# Altium footprint library SON50P300X300X75-11T175X248L.PcbLib: 1 footprints
Each footprint in its own frame and in the unit in brackets; x right, y up, seen from the top. Pads: shape width x height; smd on the part's side, far side on the other; paste and mask are expansions set on the pad; w line width, h text height; cw(c..) or ccw(c..) is an arc to the next point about the centre after c.
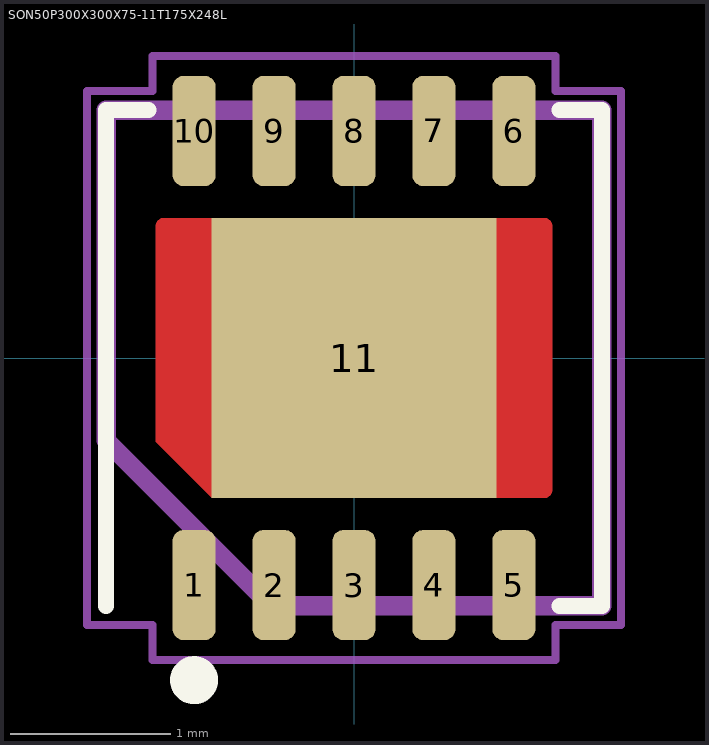
[diagram p0: the footprint, top view; thin cyan lines are the x and y axes]

## SON50P300X300X75-11T175X248L [mm] "Small Outline No-Lead (SON with Tab), 0.50 mm pitch; 10 pin, 3.00 mm L X 3.00 mm W X 0.75 mm H body"
height 0.75
pads (11):
  rrect52% 0.27x0.69 smd: 1(-1,-1.42) 2(-0.5,-1.42) 3(0,-1.42) 4(0.5,-1.42) 5(1,-1.42) 6(1,1.42) 7(0.5,1.42) 8(0,1.42) 9(-0.5,1.42) 10(-1,1.42)
  rect 1.78x1.75 smd paste-1.78 mask+0: 11(0,0)
Top Layer:
  region: 1.24,0 1.24,-0.825 1.239,-0.833 1.238,-0.841 1.235,-0.848 1.231,-0.854 1.225,-0.86 1.219,-0.865 1.213,-0.87 1.205,-0.873 1.198,-0.874 -0.89,-0.875 -1.24,-0.525 -1.24,0.825 -1.239,0.833 -1.238,0.841 -1.235,0.848 -1.231,0.854 -1.225,0.86 -1.219,0.865 -1.213,0.87 -1.205,0.873 -1.198,0.874 1.19,0.875 1.198,0.874 1.205,0.873 1.213,0.87 1.219,0.865 1.225,0.86 1.231,0.854 1.235,0.848 1.238,0.841 1.239,0.833 1.24,0.825
Top Overlay:
  circle w0.15: c-1,-2.015 r0.075
  lines w0.1: -1.55,-1.55 -1.55,1.55 -1.285,1.55 ; 1.285,-1.55 1.55,-1.55 1.55,1.55 1.285,1.55
Top Paste:
  region: -0.1,0.1 -1.04,0.1 -1.04,0.68 -0.1,0.68
  region: -0.1,-0.68 -1.04,-0.68 -1.04,-0.1 -0.1,-0.1
  region: 1.04,0.1 0.1,0.1 0.1,0.68 1.04,0.68
  region: 1.04,-0.68 0.1,-0.68 0.1,-0.1 1.04,-0.1
Top Solder:
  region: 1.24,0 1.24,-0.825 1.239,-0.833 1.238,-0.841 1.235,-0.848 1.231,-0.854 1.225,-0.86 1.219,-0.865 1.213,-0.87 1.205,-0.873 1.198,-0.874 -0.89,-0.875 -1.24,-0.525 -1.24,0.825 -1.239,0.833 -1.238,0.841 -1.235,0.848 -1.231,0.854 -1.225,0.86 -1.219,0.865 -1.213,0.87 -1.205,0.873 -1.198,0.874 1.19,0.875 1.198,0.874 1.205,0.873 1.213,0.87 1.219,0.865 1.225,0.86 1.231,0.854 1.235,0.848 1.238,0.841 1.239,0.833 1.24,0.825
Fab - Detail1, HDI1:
  lines w0.12: -1.55,-0.517 -1.55,1.55 1.55,1.55 1.55,-1.55 -0.517,-1.55 -1.55,-0.517
Courtyards/Models - Top:
  circle w0.05: c0,0 r0.25
  lines w0.05: -0.35,0 0.35,0 ; 0,-0.35 0,0.35 ; -1.67,-1.67 -1.67,1.67 -1.26,1.67 -1.26,1.89 1.26,1.89 1.26,1.67 1.67,1.67 1.67,-1.67 1.26,-1.67 1.26,-1.89 -1.26,-1.89 -1.26,-1.67 -1.67,-1.67
3D body: height 0.8, standoff 0, extent -1.55,-1.56 1.55,1.56